# EAGLE library part MSP430FR5738IRGET (library MSP430FR5738IRGET)
Check availability <https://pricing.snapeda.com/parts/MSP430FR5738IRGET/Texas%20Instruments/view-part?ref=eda>
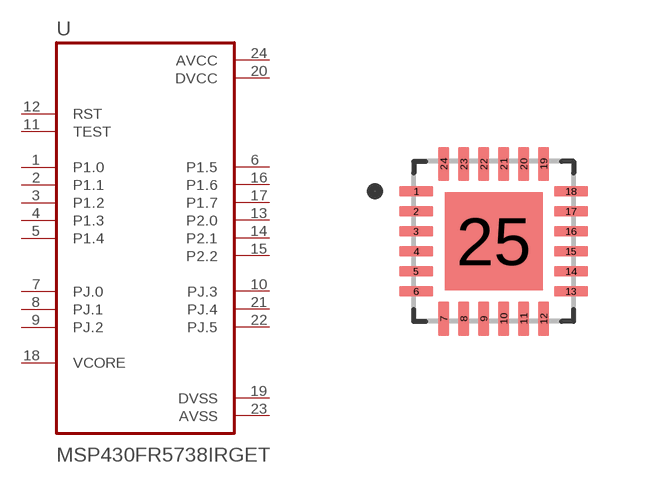
[diagram p0: symbol with the pads of QFN50P400X400X100-25N; footprint QFN50P400X400X100-25N]

Designator prefix U

## MSP430FR5738IRGET (Availability: In Stock; Description: 24 MHz MCU with 16KB FRAM, 1KB SRAM, 10-bit ADC , comparator, UART/SPI/I2C, timer; MF: Texas Instruments; MP: MSP430FR5738IRGET; Package: QFN-24 Texas Instruments; Price: None; Purchase-URL: https://pricing.snapeda.com/search/part/MSP430FR5738IRGET/?ref=eda)  [QFN50P400X400X100-25N]
1  P1.0
2  P1.1
3  P1.2
4  P1.3
5  P1.4
6  P1.5
7  PJ.0
8  PJ.1
9  PJ.2
10  PJ.3
11  TEST  in
12  RST  in
13  P2.0
14  P2.1
15  P2.2
16  P1.6
17  P1.7
18  VCORE
19  DVSS  pwr
20  DVCC  pwr
21  PJ.4
22  PJ.5
23  AVSS  pwr
24  AVCC  pwr

## Footprint QFN50P400X400X100-25N (pad centres in mm)
smd 0.86 x 0.27: 1 -1.935,1.25; 2 -1.935,0.75; 3 -1.935,0.25; 4 -1.935,-0.25; 5 -1.935,-0.75; 6 -1.935,-1.25; 13 1.935,-1.25; 14 1.935,-0.75; 15 1.935,-0.25; 16 1.935,0.25; 17 1.935,0.75; 18 1.935,1.25
smd 0.27 x 0.86: 7 -1.25,-1.935; 8 -0.75,-1.935; 9 -0.25,-1.935; 10 0.25,-1.935; 11 0.75,-1.935; 12 1.25,-1.935; 19 1.25,1.935; 20 0.75,1.935; 21 0.25,1.935; 22 -0.25,1.935; 23 -0.75,1.935; 24 -1.25,1.935
smd 2.45 x 2.45: 25 0,0